# Altium footprint library PCB2.PcbLib: 38 footprints (part 2 of 3)
Each footprint in its own frame and in the unit in brackets; x right, y up, seen from the top. Pads: shape width x height; smd on the part's side, far side on the other; paste and mask are expansions set on the pad; w line width, h text height; cw(c..) or ccw(c..) is an arc to the next point about the centre after c.
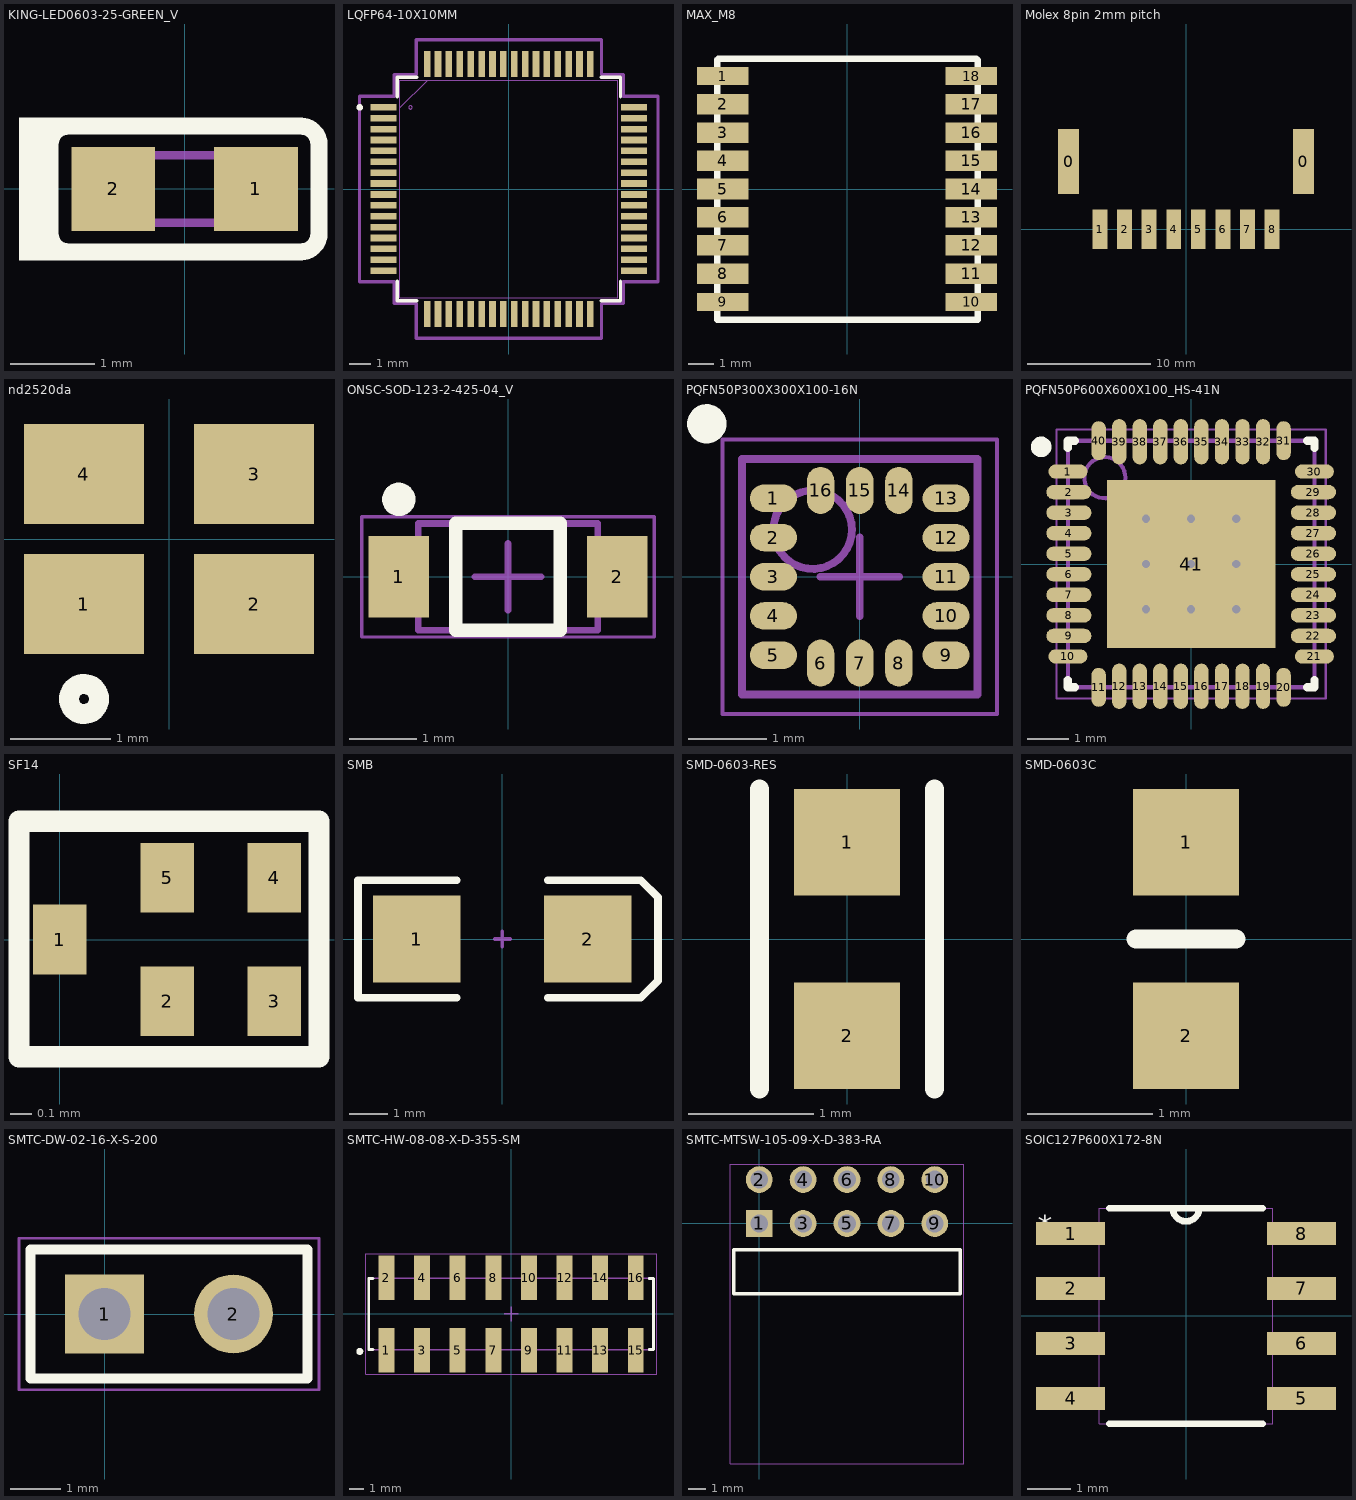
[diagram p1: the footprints below, top view; thin cyan lines are the x and y axes]

## KING-LED0603-25-GREEN_V [mm]
pads (2):
  rect 1x1 smd paste+0 mask+0: 1(0.85,0) 2(-0.85,0)
Top Overlay:
  rectangle: -1.782,-0.851 -1.198,-0.686
  rectangle: -1.973,-0.851 -1.516,0.851
  rectangle: -1.782,0.665 -1.132,0.851
  lines w0.203: -1.602,-0.533 ccw(c-1.386,-0.533) -1.386,-0.749 1.386,-0.749 ccw(c1.386,-0.533) 1.602,-0.533 1.602,0.533 ccw(c1.386,0.533) 1.386,0.749 -1.386,0.749 ccw(c-1.386,0.533) -1.602,0.533 -1.602,-0.533
Mechanical 7:
  lines w0.1: -0.8,-0.4 0.8,-0.4 0.8,0.4 -0.8,0.4 -0.8,-0.4
3D body: height 0.25, standoff 0.1, extent -0.6,-0.4 0.6,0.4
3D body: height 0.2, standoff 0.15, extent -0.254,-0.254 0.254,0.254
3D body: height 0.1, standoff 0, extent -0.8,-0.4 0.8,0.4

## LQFP64-10X10MM [mm]
pads (64):
  rect 1.194x0.305 smd: 1(-5.75,3.75) 2(-5.75,3.25) 3(-5.75,2.75) 4(-5.75,2.25) 5(-5.75,1.75) 6(-5.75,1.25) 7(-5.75,0.75) 8(-5.75,0.25) 9(-5.75,-0.25) 10(-5.75,-0.75) 11(-5.75,-1.25) 12(-5.75,-1.75) 13(-5.75,-2.25) 14(-5.75,-2.75) 15(-5.75,-3.25) 16(-5.75,-3.75) 33(5.75,-3.75) 34(5.75,-3.25) 35(5.75,-2.75) 36(5.75,-2.25) 37(5.75,-1.75) 38(5.75,-1.25) 39(5.75,-0.75) 40(5.75,-0.25) 41(5.75,0.25) 42(5.75,0.75) 43(5.75,1.25) 44(5.75,1.75) 45(5.75,2.25) 46(5.75,2.75) 47(5.75,3.25) 48(5.75,3.75)
  rect 0.305x1.194 smd: 17(-3.75,-5.75) 18(-3.25,-5.75) 19(-2.75,-5.75) 20(-2.25,-5.75) 21(-1.75,-5.75) 22(-1.25,-5.75) 23(-0.75,-5.75) 24(-0.25,-5.75) 25(0.25,-5.75) 26(0.75,-5.75) 27(1.25,-5.75) 28(1.75,-5.75) 29(2.25,-5.75) 30(2.75,-5.75) 31(3.25,-5.75) 32(3.75,-5.75) 49(3.75,5.75) 50(3.25,5.75) 51(2.75,5.75) 52(2.25,5.75) 53(1.75,5.75) 54(1.25,5.75) 55(0.75,5.75) 56(0.25,5.75) 57(-0.25,5.75) 58(-0.75,5.75) 59(-1.25,5.75) 60(-1.75,5.75) 61(-2.25,5.75) 62(-2.75,5.75) 63(-3.25,5.75) 64(-3.75,5.75)
Top Overlay:
  circle w0.152: c-6.851,3.75 r0.076
  lines w0.152: -5.131,-4.234 -5.131,-5.131 -4.234,-5.131 ; -5.131,4.234 -5.131,5.131 -4.234,5.131 ; 4.234,-5.131 5.131,-5.131 5.131,-4.234 ; 4.234,5.131 5.131,5.131 5.131,4.234
Mechanical 13:
  circle w0: c-4.518,3.75 r0.076
  lines w0.025: -5.004,3.734 -3.734,5.004 ; -5.004,-5.004 -5.004,5.004 5.004,5.004 5.004,-5.004 -5.004,-5.004
Mechanical 15:
  lines w0.152: -6.855,-4.258 -6.855,4.258 -5.258,4.258 -5.258,5.258 -4.258,5.258 -4.258,6.855 4.258,6.855 4.258,5.258 5.258,5.258 5.258,4.258 6.855,4.258 6.855,-4.258 5.258,-4.258 5.258,-5.258 4.258,-5.258 4.258,-6.855 -4.258,-6.855 -4.258,-5.258 -5.258,-5.258 -5.258,-4.258 -6.855,-4.258
3D body: height 0.25, standoff 0, extent 0,0 0.254,0.254

## MAX_M8 [mm]
pads (18):
  rect 2x0.7 smd: 1(-4.85,4.4) 9(-4.85,-4.4) 10(4.85,-4.4) 18(4.85,4.4)
  rect 2x0.8 smd: 2(-4.85,3.3) 3(-4.85,2.2) 4(-4.85,1.1) 5(-4.85,0) 6(-4.85,-1.1) 7(-4.85,-2.2) 8(-4.85,-3.3) 11(4.85,-3.3) 12(4.85,-2.2) 13(4.85,-1.1) 14(4.85,0) 15(4.85,1.1) 16(4.85,2.2) 17(4.85,3.3)
Top Overlay:
  lines w0.254: -5.066,-5.091 -5.066,5.033 -5.025,5.074 5.05,5.074 5.108,5.017 5.108,-5.074 5.091,-5.091 -5.025,-5.091

## Molex 8pin 2mm pitch [mm]
pads (10):
  rect 1.7x5.3 smd: 0(-9.557,5.502) 0(9.543,5.502)
  rect 1.2x3.2 smd: 1(-7.007,0.002) 2(-5.007,0.002) 3(-3.007,0.002) 4(-1.007,0.002) 5(0.993,0.002) 6(2.993,0.002) 7(4.993,0.002) 8(6.993,0.002)

## nd2520da [mm]
pads (4):
  rect 1.2x1 smd mask+0.05: 1(-0.85,-0.65) 2(0.85,-0.65) 3(0.85,0.65) 4(-0.85,0.65)
Top Overlay:
  circle w0.2: c-0.85,-1.6 r0.15
3D body: height 1, standoff 0, extent -1.25,-1 1.25,1

## ONSC-SOD-123-2-425-04_V [mm]
pads (2):
  rect 0.91x1.22 smd: 1(-1.635,0) 2(1.635,0)
Top Overlay:
  circle w0.25: c-1.635,1.16 r0.125
  lines w0.2: -0.78,-0.8 0.78,-0.8 0.78,0.8 -0.78,0.8 -0.78,-0.8
Mechanical 13:
  lines w0.1: -1.345,-0.8 1.345,-0.8 1.345,0.8 -1.345,0.8 -1.345,-0.8
Mechanical 15:
  lines w0.05: -2.19,-0.9 2.19,-0.9 2.19,0.9 -2.19,0.9 -2.19,-0.9
  lines w0.1: -0.5,0 0.5,0 ; 0,-0.5 0,0.5
3D body: height 1.35, standoff 0, extent -1.345,-0.8 1.345,0.8

## PQFN50P300X300X100-16N [mm]
pads (16):
  oval 0.6x0.35 smd: 1(-1.1,1) 2(-1.1,0.5) 3(-1.1,0) 4(-1.1,-0.5) 5(-1.1,-1) 9(1.1,-1) 10(1.1,-0.5) 11(1.1,0) 12(1.1,0.5) 13(1.1,1)
  oval 0.35x0.6 smd: 6(-0.5,-1.1) 7(0,-1.1) 8(0.5,-1.1) 14(0.5,1.1) 15(0,1.1) 16(-0.5,1.1)
Top Overlay:
  circle w0.25: c-1.95,1.95 r0.125
Mechanical 13:
  circle w0.1: c-0.6,0.6 r0.5
  lines w0.1: -1.5,-1.5 -1.5,1.5 1.5,1.5 1.5,-1.5 -1.5,-1.5
Mechanical 15:
  lines w0.05: -1.75,-1.75 -1.75,1.75 1.75,1.75 1.75,-1.75 -1.75,-1.75
  lines w0.1: -0.5,0 0.5,0 ; 0,-0.5 0,0.5
3D body: height 1, standoff 0, extent -1.5,-1.5 1.5,1.5

## PQFN50P600X600X100_HS-41N [mm]
pads (41):
  oval 0.95x0.35 smd: 1(-3,2.25) 10(-3,-2.25) 21(3,-2.25) 30(3,2.25)
  oval 1.1x0.35 smd: 2(-2.975,1.75) 3(-2.975,1.25) 4(-2.975,0.75) 5(-2.975,0.25) 6(-2.975,-0.25) 7(-2.975,-0.75) 8(-2.975,-1.25) 9(-2.975,-1.75) 22(2.975,-1.75) 23(2.975,-1.25) 24(2.975,-0.75) 25(2.975,-0.25) 26(2.975,0.25) 27(2.975,0.75) 28(2.975,1.25) 29(2.975,1.75)
  oval 0.35x0.95 smd: 11(-2.25,-3) 20(2.25,-3) 31(2.25,3) 40(-2.25,3)
  oval 0.35x1.1 smd: 12(-1.75,-2.975) 13(-1.25,-2.975) 14(-0.75,-2.975) 15(-0.25,-2.975) 16(0.25,-2.975) 17(0.75,-2.975) 18(1.25,-2.975) 19(1.75,-2.975) 32(1.75,2.975) 33(1.25,2.975) 34(0.75,2.975) 35(0.25,2.975) 36(-0.25,2.975) 37(-0.75,2.975) 38(-1.25,2.975) 39(-1.75,2.975)
  rect 4.1x4.1 smd: 41(0,0)
via 1.1,-1.1 diameter 0.5 hole 0.2
via 0,-1.1 diameter 0.5 hole 0.2
via -1.1,-1.1 diameter 0.5 hole 0.2
via 1.1,0 diameter 0.5 hole 0.2
via 0,0 diameter 0.5 hole 0.2
via -1.1,0 diameter 0.5 hole 0.2
via 1.1,1.1 diameter 0.5 hole 0.2
via 0,1.1 diameter 0.5 hole 0.2
via -1.1,1.1 diameter 0.5 hole 0.2
Top Overlay:
  circle w0.25: c-3.65,2.85 r0.125
  lines w0.2: -3,-2.825 -3,-3 -2.825,-3 ; -3,2.825 -3,3 -2.825,3 ; 2.825,-3 3,-3 3,-2.825 ; 2.825,3 3,3 3,2.825
Mechanical 13:
  circle w0.1: c-2.1,2.1 r0.5
  lines w0.1: -3,-3 3,-3 3,3 -3,3 -3,-3
Mechanical 15:
  lines w0.05: -3.275,-3.275 3.275,-3.275 3.275,3.275 -3.275,3.275 -3.275,-3.275
  lines w0.1: -0.5,0 0.5,0 ; 0,-0.5 0,0.5
3D body: height 1, standoff 0, extent -3,-3 3,3

## SF14 [mm]
pads (5):
  rect 0.25x0.325 smd: 1(0,0) 2(0.5,-0.288) 3(1,-0.288) 4(1,0.288) 5(0.5,0.288)
Top Overlay:
  lines w0.1: -0.191,-0.548 -0.191,0.552 1.209,0.552 1.209,-0.548 -0.191,-0.548

## SMB [mm]
pads (2):
  rect 2.3x2.3 smd: 1(-2.25,0) 2(2.25,0)
Top Overlay:
  lines w0.2: -1.2,-1.55 -3.8,-1.55 -3.8,1.55 -1.2,1.55 ; 1.2,-1.55 3.65,-1.55 4.1,-1.1 4.1,1.1 3.65,1.55 1.2,1.55
Mechanical 1:
  lines w0.1: -0.2,0 0.2,0 ; 0,-0.2 0,0.2

## SMD-0603-RES [mm]
pads (2):
  rect 0.85x0.85 smd: 1(0,0.775) 2(0,-0.775)
Top Overlay:
  lines w0.152: -0.7,-1.2 -0.7,1.2 ; 0.7,-1.2 0.7,1.2
3D body "0603.step": height 0.56, standoff 0, extent -0.4,-0.85 0.4,0.85

## SMD-0603C [mm]
pads (2):
  rect 0.85x0.85 smd: 1(0,0.775) 2(0,-0.775)
Top Overlay:
  lines w0.152: -0.4,0 0.4,0
3D body "capacitor 0603.step": height 0.9, standoff 0, extent -0.4,-0.8 0.4,0.8

## SMTC-DW-02-16-X-S-200 [mm]
pads (2):
  rect 1.55x1.55 hole 1.02: 1(0,0)
  round 1.55 hole 1.02: 2(2.54,0)
Top Overlay:
  lines w0.2: -1.46,-1.27 -1.46,1.27 4.001,1.27 4.001,-1.27 -1.46,-1.27
Mechanical 13:
  lines w0.1: -1.46,-1.27 4.001,-1.27 4.001,1.27 -1.46,1.27 -1.46,-1.27
Mechanical 15:
  lines w0.05: -1.685,-1.495 -1.685,1.495 4.226,1.495 4.226,-1.495 -1.685,-1.495
3D body "DW-02-16-X-S-200.step": height 8.51, standoff -2.79, extent -1.397,-1.27 3.81,1.27

## SMTC-HW-08-08-X-D-355-SM [mm]
pads (16):
  rect 1.14x3.175 smd: 1(-8.89,-2.603) 2(-8.89,2.602) 3(-6.35,-2.603) 4(-6.35,2.602) 5(-3.81,-2.603) 6(-3.81,2.602) 7(-1.27,-2.603) 8(-1.27,2.602) 9(1.27,-2.603) 10(1.27,2.602) 11(3.81,-2.603) 12(3.81,2.602) 13(6.35,-2.603) 14(6.35,2.602) 15(8.89,-2.603) 16(8.89,2.602)
Top Overlay:
  circle w0.25: c-10.795,-2.668 r0.125
  lines w0.2: -9.86,-2.54 -10.16,-2.54 -10.16,2.54 -9.86,2.54 ; 9.86,-2.54 10.16,-2.54 10.16,2.54 9.86,2.54
Mechanical 13:
  lines w0.1: -10.16,-2.54 10.16,-2.54 10.16,2.54 -10.16,2.54 -10.16,-2.54
Mechanical 15:
  lines w0.05: -10.385,-4.315 -10.385,4.314 10.385,4.314 10.385,-4.315 -10.385,-4.315
  lines w0.1: -0.5,0 0.5,0 ; 0,-0.5 0,0.5
3D body "HW-08-08-X-D-355-SM.step": height 11.81, standoff 0, extent -10.16,-3.684 10.16,3.682

## SMTC-MTSW-105-09-X-D-383-RA [mm]
pads (10):
  rect 1.55x1.55 hole 1.02: 1(0,0)
  round 1.55 hole 1.02: 2(0,2.54) 3(2.54,0) 4(2.54,2.54) 5(5.08,0) 6(5.08,2.54) 7(7.62,0) 8(7.62,2.54) 9(10.16,0) 10(10.16,2.54)
Top Overlay:
  lines w0.2: -1.46,-4.06 11.62,-4.06 11.62,-1.52 -1.46,-1.52 -1.46,-4.06
Mechanical 13:
  lines w0.1: -1.46,-4.06 11.62,-4.06 11.62,-1.52 -1.46,-1.52 -1.46,-4.06
Mechanical 15:
  lines w0.05: -1.685,3.429 -1.685,-13.913 11.845,-13.913 11.845,3.429 ; -1.685,3.44 11.845,3.44
3D body "MTSW-105-09-X-D-383-RA.step": height 5.56, standoff -3.48, extent -1.27,-13.788 11.43,2.862

## SOIC127P600X172-8N [mil]
pads (8):
  rect 63x21 smd: 1(-105,75) 2(-105,25) 3(-105,-25) 4(-105,-75) 5(105,-75) 6(105,-25) 7(105,25) 8(105,75)
Top Overlay:
  lines w6: -70,-98 70,-98 ; -70,98 -12,98 ; 70,98 12,98 ; -12,98 ccw(c0,98) 12,98 ; -12,98 12,98
  text "*" at -135,72.16 h19.68
Mechanical 1:
  lines w0: -12,98 ccw(c0,98) 12,98 ; -12,98 12,98 ; -12,98 -79,98 -79,-98 79,-98 79,98 12,98 ; -122,-85 -122,-65 -79,-65 -79,-85 -122,-85 ; -122,-35 -122,-15 -79,-15 -79,-35 -122,-35 ; -122,15 -122,35 -79,35 -79,15 -122,15 ; -122,65 -122,85 -79,85 -79,65 -122,65 ; 79,-85 79,-65 122,-65 122,-85 79,-85 ; 79,-35 79,-15 122,-15 122,-35 79,-35 ; 79,15 79,35 122,35 122,15 79,15 ; 79,65 79,85 122,85 122,65 79,65
  text "*" at -135,72.16 h19.68